# EAGLE library part EXB-U18103JX (library EXB-U18103JX)
Series/Type: Anti-Sulfurated Chip Resistor Array, Power Rating (W): 0.031, Chip Size (LxW) (mm): 1.4 X 0.6, Resistance Values (?): 10000, Resistance Tolerance (%): 5, Terminal Pitch (mm): 0.4, Type of Circuit: Isolated Circuit, Number of Elements (piece): 4, T.C.R (?108/K): ?200, Number of Terminals (piece): 8 Source: Datasheet <https://componentsearchengine.com/Datasheets/1/EXB-U18103JX.pdf>
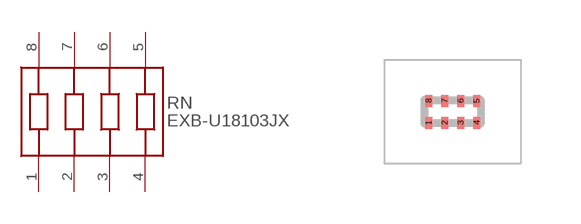
[diagram p0: symbol with the pads of EXBU18; footprint EXBU18]

Designator prefix RN

## EXB-U18103JX (Description: Series/Type: Anti-Sulfurated Chip Resistor Array, Power Rating (W): 0.031, Chip Size (LxW) (mm): 1.4 X 0.6, Resistance Values (?): 10000, Resistance Tolerance (%): 5, Terminal Pitch (mm): 0.4, Type of Circuit: Isolated Circuit, Number of Elements (piece): 4, T.C.R (?108/K): ?200, Number of Terminals (piece): 8; Height: 0.45mm; Manufacturer_Name: Panasonic; Manufacturer_Part_Number: EXB-U18103JX; Mouser_Part_Number: 667-EXB-U18103JX; Mouser_Price-Stock: https://www.mouser.com/Search/Refine.aspx?Keyword=667-EXB-U18103JX)  [EXBU18]
1  1
2  2
3  3
4  4
5  5
6  6
7  7
8  8

## Footprint EXBU18 (pad centres in mm)
EXBU18
smd 0.175 x 0.3: 1 -0.6,-0.275; 2 -0.2,-0.275; 3 0.2,-0.275; 4 0.6,-0.275; 5 0.6,0.275; 6 0.2,0.275; 7 -0.2,0.275; 8 -0.6,0.275